# EAGLE library part IC_555 (library akita)
555
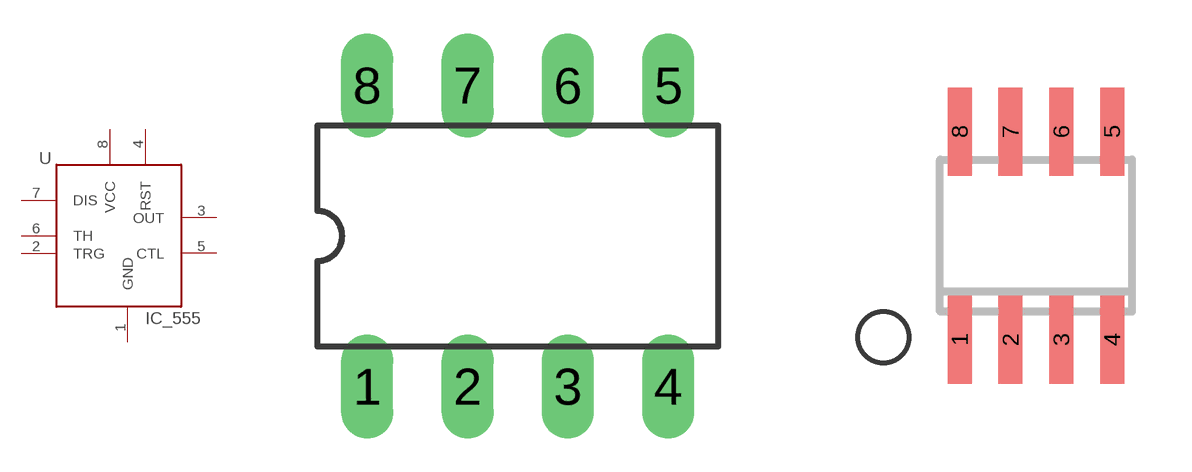
[diagram p55: symbol with the pads of DIL08; footprints DIL08, SO08]

Designator prefix U

## IC_555DP  [DIL08]
1  GND
2  TRG
3  OUT
4  RST
5  CTL
6  TH
7  DIS
8  VCC

## IC_555SO  [SO08]
Pads as for DIL08

## IC_555VS65  [VSSOP8_065MM]
P$1  GND
P$2  TRG
P$3  OUT
P$4  RST
P$5  CTL
P$6  TH
P$7  DIS
P$8  VCC

## Footprint DIL08 (pad centres in mm)
Dual In Line
drill 0.813 long: 1 -3.81,-3.81; 2 -1.27,-3.81; 3 1.27,-3.81; 4 3.81,-3.81; 5 3.81,3.81; 6 1.27,3.81; 7 -1.27,3.81; 8 -3.81,3.81

## Footprint SO08 (pad centres in mm)
SMALL OUTLINE INTEGRATED CIRCUIT body 3.9 mm/JEDEC MS-012AA
smd 0.6 x 2.2: 1 -1.905,-2.6; 2 -0.635,-2.6; 3 0.635,-2.6; 4 1.905,-2.6; 5 1.905,2.6; 6 0.635,2.6; 7 -0.635,2.6; 8 -1.905,2.6

## Footprint VSSOP8_065MM (pad centres in mm)
VSSOP8, e=0.65mm
smd 0.45 x 1.45: P$1 -0.975,-2.2; P$2 -0.325,-2.2; P$3 0.325,-2.2; P$4 0.975,-2.2; P$5 0.975,2.2; P$6 0.325,2.2; P$7 -0.325,2.2; P$8 -0.975,2.2